# Altium integrated library Micron Memory DDR3 SDRAM.IntLib: 123 symbols (part 4 of 37)
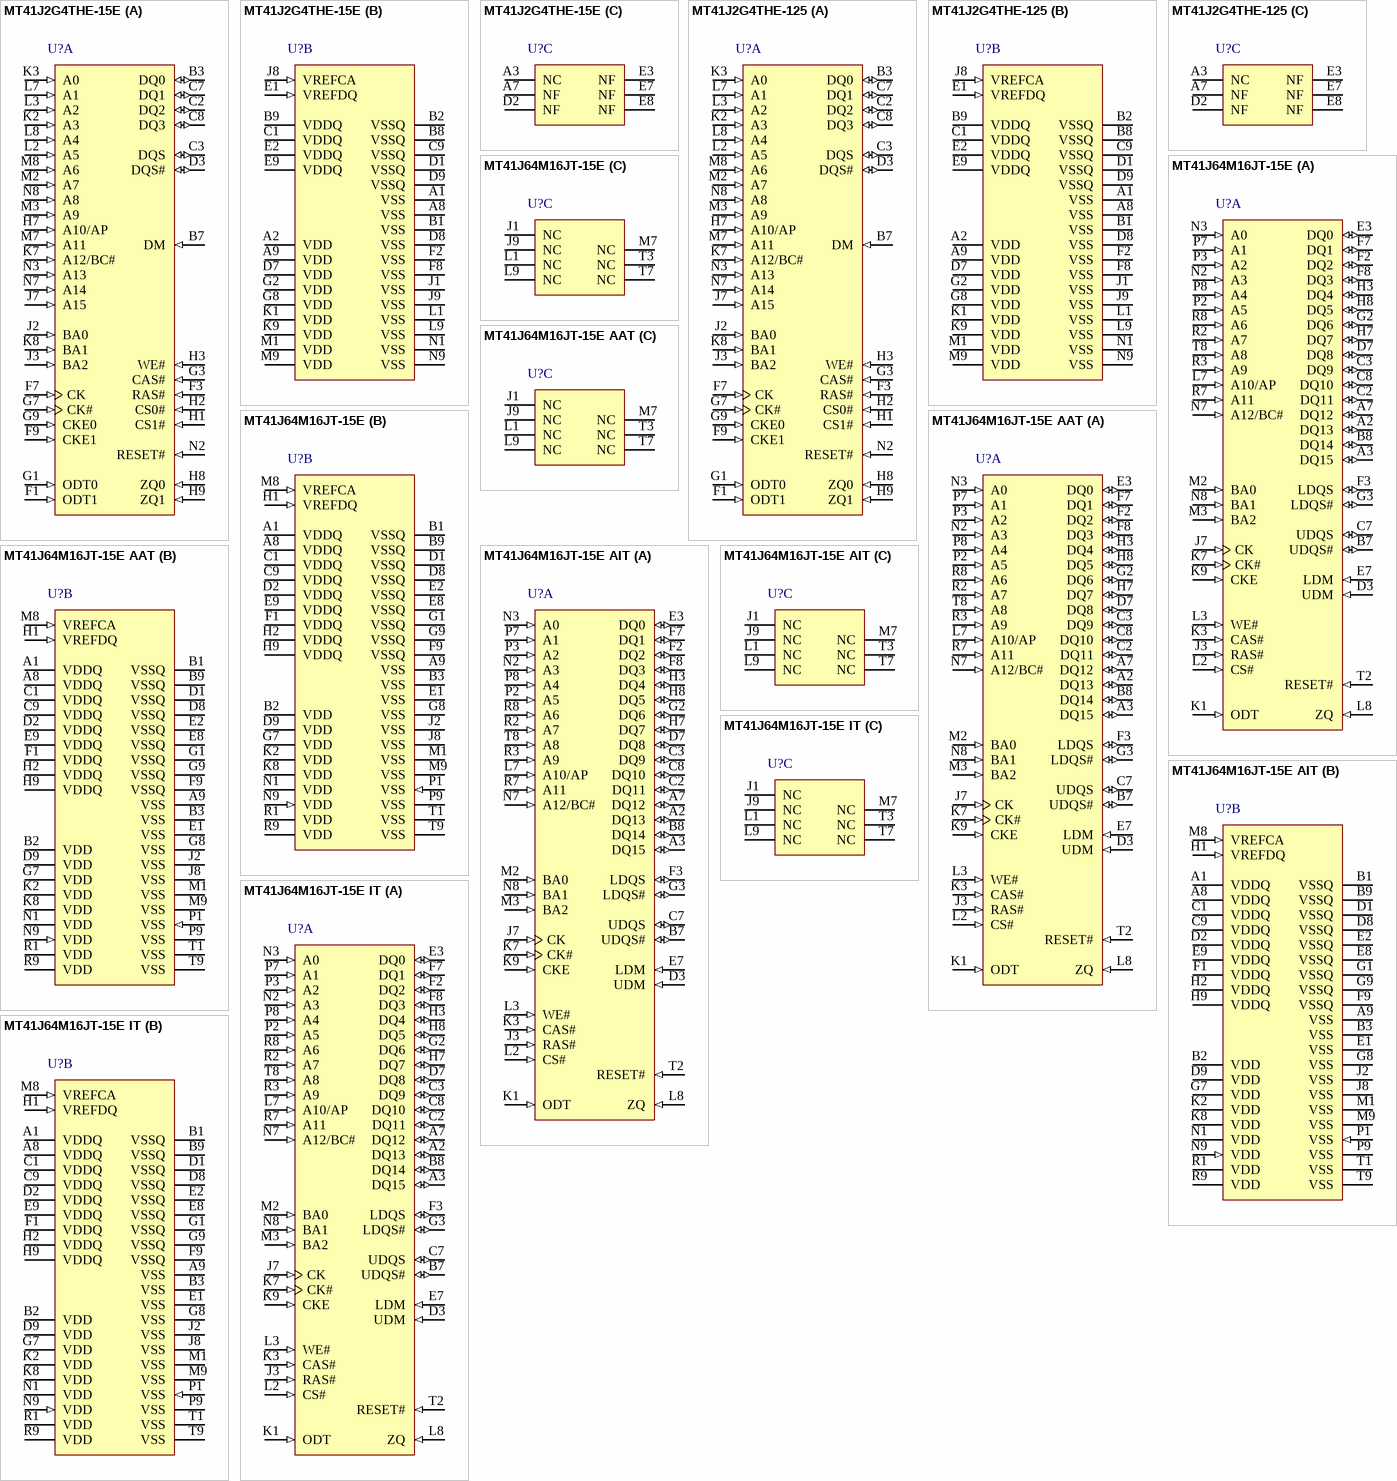
[diagram p21: symbols MT41J2G4THE-15E to MT41J64M16JT-15E IT]

## MT41J64M16JT-15E AAT
designator U?
1Gb DDR3-1333 SDRAM, 64Mb x 16, 1.5ns, 1.5V, -40 to 105 degC, 96-Ball FBGA, Pb-Free; Manufacturer: Micron; PartNumber: MT41J64M16JT-15E AAT; CL: CL = 9; Clock Rate: 667 MHz; Op. Temp.: -40C to +105C; DatasheetVersion: Rev. C; PackageVersion: Rev.G; PackageReference: MICT-JT-96; PackageDescription: 96-Ball Fine-Pitch Ball Grid Array, 14 x 8 mm, Pitch 0.8 mm; Cycle Time: 1.5ns; Data Rate: DDR3-1333; Density: 1Gb; Depth: 64Mb; Package: FBGA; Pin Count: 96-ball; RoHS: Yes; Voltage: 1.5V; Width: x16; Mounting Technology: Surface Mount; ComponentLink1Description: Manufacturer URL; ComponentLink1URL: http://www.micron.com/; ComponentLink2Description: Datasheet; ComponentLink2URL: http://www.micron.com/~/media/Documents/Products/Data%20Sheet/DRAM/1Gb_AIT_AAT_DDR3_SDRAM.pdf; ComponentLink3Description: Package Specification; ComponentLink3URL: http://www.micron.com/~/media/Documents/Products/Data%20Sheet/DRAM/2Gb_DDR3_SDRAM.pdf
footprint MICT-JT-96 (BGA, 96-Balls, Body 14x8mm, Pitch 0.8mm)
part A pins: A2 DQ13 (io) "Data input/output: Upper byte of bidirectional data bus for the x16 configuration. DQ[15:8] are referenced to VREFDQ.", A3 DQ15 (io) "Data input/output: Upper byte of bidirectional data bus for the x16 configuration. DQ[15:8] are referenced to VREFDQ.", A7 DQ12 (io) "Data input/output: Upper byte of bidirectional data bus for the x16 configuration. DQ[15:8] are referenced to VREFDQ.", B7 UDQS# (io) "Upper byte data strobe: Output with read data. Edge-aligned with read data. Input with write data. DQS is center-aligned to write data.", B8 DQ14 (io) "Data input/output: Upper byte of bidirectional data bus for the x16 configuration. DQ[15:8] are referenced to VREFDQ.", C2 DQ11 (io) "Data input/output: Upper byte of bidirectional data bus for the x16 configuration. DQ[15:8] are referenced to VREFDQ.", C3 DQ9 (io) "Data input/output: Upper byte of bidirectional data bus for the x16 configuration. DQ[15:8] are referenced to VREFDQ.", C7 UDQS (io) "Upper byte data strobe: Output with read data. Edge-aligned with read data. Input with write data. DQS is center-aligned to write data.", C8 DQ10 (io) "Data input/output: Upper byte of bidirectional data bus for the x16 configuration. DQ[15:8] are referenced to VREFDQ.", D3 UDM (in) "Input data mask: UDM is an upper-byte, input mask signal for write data. Upperbyte input data is masked when UDM is sampled HIGH along with that input data during a WRITE access. Although the UDM ball is input-only, the UDM (See Datasheet)", D7 DQ8 (io) "Data input/output: Upper byte of bidirectional data bus for the x16 configuration. DQ[15:8] are referenced to VREFDQ.", E3 DQ0 (io) "Data input/output: Lower byte of bidirectional data bus for the x16 configuration. DQ[7:0] are referenced to VREFDQ.", E7 LDM (in) "Input data mask: LDM is a lower-byte, input mask signal for write data. Lower-byte input data is masked when LDM is sampled HIGH along with the input data during a write access. Although the LDM ball is input-only, the LDM (See Datasheet)", F2 DQ2 (io) "Data input/output: Lower byte of bidirectional data bus for the x16 configuration. DQ[7:0] are referenced to VREFDQ.", F3 LDQS (io) "Lower byte data strobe: Output with read data. Edge-aligned with read data. Input with write data. Center-aligned to write data.", F7 DQ1 (io) "Data input/output: Lower byte of bidirectional data bus for the x16 configuration. DQ[7:0] are referenced to VREFDQ.", F8 DQ3 (io) "Data input/output: Lower byte of bidirectional data bus for the x16 configuration. DQ[7:0] are referenced to VREFDQ.", G2 DQ6 (io) "Data input/output: Lower byte of bidirectional data bus for the x16 configuration. DQ[7:0] are referenced to VREFDQ.", G3 LDQS# (io) "Lower byte data strobe: Output with read data. Edge-aligned with read data. Input with write data. Center-aligned to write data.", H3 DQ4 (io) "Data input/output: Lower byte of bidirectional data bus for the x16 configuration. DQ[7:0] are referenced to VREFDQ.", H7 DQ7 (io) "Data input/output: Lower byte of bidirectional data bus for the x16 configuration. DQ[7:0] are referenced to VREFDQ.", H8 DQ5 (io) "Data input/output: Lower byte of bidirectional data bus for the x16 configuration. DQ[7:0] are referenced to VREFDQ.", J3 RAS# (in) "Command inputs: RAS#, CAS#, and WE# (along with CS#) define the command being entered and are referenced to VREFCA.", J7 CK (in) "Clock: CK and CK# are differential clock inputs. All control and address input signals are sampled on the crossing of the positive edge of CK and the negative edge of CK#. Output data strobe (DQS, DQS#) is referenced to the (See Datasheet)", K1 ODT (in) "On-die termination: ODT enables (registered HIGH) and disables (registered LOW) termination resistance internal to the DDR3 SDRAM. When enabled in normal operation, ODT is only applied to each of the following balls: (See Datasheet)", K3 CAS# (in) "Command inputs: RAS#, CAS#, and WE# (along with CS#) define the command being entered and are referenced to VREFCA.", K7 CK# (in) "Clock: CK and CK# are differential clock inputs. All control and address input signals are sampled on the crossing of the positive edge of CK and the negative edge of CK#. Output data strobe (DQS, DQS#) is referenced to the (See Datasheet)", K9 CKE (in) "Clock enable: CKE enables (registered HIGH) and disables (registered LOW) internal circuitry and clocks on the DRAM. The specific circuitry that is enabled/disabled is dependent upon the DDR3 SDRAM configuration and (See Datasheet)", L2 CS# (in) "Chip select: CS# enables (registered LOW) and disables (registered HIGH) the command decoder. All commands are masked when CS# is registered HIGH. CS# provides for external rank selection on systems with multiple ranks. CS# (See Datasheet)", L3 WE# (in) "Command inputs: RAS#, CAS#, and WE# (along with CS#) define the command being entered and are referenced to VREFCA.", L7 A10/AP (in) "Address inputs: Provide the row address for ACTIVATE commands, and the column address and auto precharge bit (A10) for READ/WRITE commands, to select one location out of the memory array in the respective bank. A10 sampled (See Datasheet)", L8 ZQ (in) "External reference ball for output drive calibration: This ball is tied to an external 240ohm resistor (RZQ), which is tied to VSSQ.", M2 BA0 (in) "Bank address inputs: BA[2:0] define the bank to which an ACTIVATE, READ, WRITE, or PRECHARGE command is being applied. BA[2:0] define which mode register (MR0, MR1, MR2, or MR3) is loaded during the LOAD MODE command. (See Datasheet)", M3 BA2 (in) "Bank address inputs: BA[2:0] define the bank to which an ACTIVATE, READ, WRITE, or PRECHARGE command is being applied. BA[2:0] define which mode register (MR0, MR1, MR2, or MR3) is loaded during the LOAD MODE command. (See Datasheet)", N2 A3 (in) "Address inputs: Provide the row address for ACTIVATE commands, and the column address and auto precharge bit (A10) for READ/WRITE commands, to select one location out of the memory array in the respective bank. A10 sampled (See Datasheet)", N3 A0 (in) "Address inputs: Provide the row address for ACTIVATE commands, and the column address and auto precharge bit (A10) for READ/WRITE commands, to select one location out of the memory array in the respective bank. A10 sampled (See Datasheet)", N7 A12/BC# (in) "Address inputs: Provide the row address for ACTIVATE commands, and the column address and auto precharge bit (A10) for READ/WRITE commands, to select one location out of the memory array in the respective bank. A10 sampled (See Datasheet)", N8 BA1 (in) "Bank address inputs: BA[2:0] define the bank to which an ACTIVATE, READ, WRITE, or PRECHARGE command is being applied. BA[2:0] define which mode register (MR0, MR1, MR2, or MR3) is loaded during the LOAD MODE command. (See Datasheet)", P2 A5 (in) "Address inputs: Provide the row address for ACTIVATE commands, and the column address and auto precharge bit (A10) for READ/WRITE commands, to select one location out of the memory array in the respective bank. A10 sampled (See Datasheet)", P3 A2 (in) "Address inputs: Provide the row address for ACTIVATE commands, and the column address and auto precharge bit (A10) for READ/WRITE commands, to select one location out of the memory array in the respective bank. A10 sampled (See Datasheet)", P7 A1 (in) "Address inputs: Provide the row address for ACTIVATE commands, and the column address and auto precharge bit (A10) for READ/WRITE commands, to select one location out of the memory array in the respective bank. A10 sampled (See Datasheet)", P8 A4 (in) "Address inputs: Provide the row address for ACTIVATE commands, and the column address and auto precharge bit (A10) for READ/WRITE commands, to select one location out of the memory array in the respective bank. A10 sampled (See Datasheet)", R2 A7 (in) "Address inputs: Provide the row address for ACTIVATE commands, and the column address and auto precharge bit (A10) for READ/WRITE commands, to select one location out of the memory array in the respective bank. A10 sampled (See Datasheet)", R3 A9 (in) "Address inputs: Provide the row address for ACTIVATE commands, and the column address and auto precharge bit (A10) for READ/WRITE commands, to select one location out of the memory array in the respective bank. A10 sampled (See Datasheet)", R7 A11 (in) "Address inputs: Provide the row address for ACTIVATE commands, and the column address and auto precharge bit (A10) for READ/WRITE commands, to select one location out of the memory array in the respective bank. A10 sampled (See Datasheet)", R8 A6 (in) "Address inputs: Provide the row address for ACTIVATE commands, and the column address and auto precharge bit (A10) for READ/WRITE commands, to select one location out of the memory array in the respective bank. A10 sampled (See Datasheet)", T2 RESET# (in) "Reset: RESET# is an active LOW CMOS input referenced to VSS . The RESET# input receiver is a CMOS input defined as a rail-to-rail signal with DC HIGH >= 0.8 x VDD and DC LOW =< 0.2 x VDDQ. RESET# assertion and desertion are (See Datasheet)", T8 A8 (in) "Address inputs: Provide the row address for ACTIVATE commands, and the column address and auto precharge bit (A10) for READ/WRITE commands, to select one location out of the memory array in the respective bank. A10 sampled (See Datasheet)"
part B pins: A1 VDDQ (power) "DQ power supply: 1.5V +/-0.075V. Isolated on the device for improved noise immunity.", A8 VDDQ (power) "DQ power supply: 1.5V +/-0.075V. Isolated on the device for improved noise immunity.", A9 VSS (power) "Ground.", B1 VSSQ (power) "DQ ground: Isolated on the device for improved noise immunity.", B2 VDD (power) "Power supply: 1.5V +/-0.075V.", B3 VSS (power) "Ground.", B9 VSSQ (power) "DQ ground: Isolated on the device for improved noise immunity.", C1 VDDQ (power) "DQ power supply: 1.5V +/-0.075V. Isolated on the device for improved noise immunity.", C9 VDDQ (power) "DQ power supply: 1.5V +/-0.075V. Isolated on the device for improved noise immunity.", D1 VSSQ (power) "DQ ground: Isolated on the device for improved noise immunity.", D2 VDDQ (power) "DQ power supply: 1.5V +/-0.075V. Isolated on the device for improved noise immunity.", D8 VSSQ (power) "DQ ground: Isolated on the device for improved noise immunity.", D9 VDD (power) "Power supply: 1.5V +/-0.075V.", E1 VSS (power) "Ground.", E2 VSSQ (power) "DQ ground: Isolated on the device for improved noise immunity.", E8 VSSQ (power) "DQ ground: Isolated on the device for improved noise immunity.", E9 VDDQ (power) "DQ power supply: 1.5V +/-0.075V. Isolated on the device for improved noise immunity.", F1 VDDQ (power) "DQ power supply: 1.5V +/-0.075V. Isolated on the device for improved noise immunity.", F9 VSSQ (power) "DQ ground: Isolated on the device for improved noise immunity.", G1 VSSQ (power) "DQ ground: Isolated on the device for improved noise immunity.", G7 VDD (power) "Power supply: 1.5V +/-0.075V.", G8 VSS (power) "Ground.", G9 VSSQ (power) "DQ ground: Isolated on the device for improved noise immunity.", H1 VREFDQ (in) "Reference voltage for data: VREFDQ must be maintained at all times (excluding self refresh) for proper device operation.", H2 VDDQ (power) "DQ power supply: 1.5V +/-0.075V. Isolated on the device for improved noise immunity.", H9 VDDQ (power) "DQ power supply: 1.5V +/-0.075V. Isolated on the device for improved noise immunity.", J2 VSS (power) "Ground.", J8 VSS (power) "Ground.", K2 VDD (power) "Power supply: 1.5V +/-0.075V.", K8 VDD (power) "Power supply: 1.5V +/-0.075V.", M1 VSS (power) "Ground.", M8 VREFCA (in) "Reference voltage for control, command, and address: VREFCA must be maintained at all times (including self refresh) for proper device operation.", M9 VSS (power) "Ground.", N1 VDD (power) "Power supply: 1.5V +/-0.075V.", N9 VDD (in) "Power supply: 1.5V +/-0.075V.", P1 VSS (in) "Ground.", P9 VSS (power) "Ground.", R1 VDD (power) "Power supply: 1.5V +/-0.075V.", R9 VDD (power) "Power supply: 1.5V +/-0.075V.", T1 VSS (power) "Ground.", T9 VSS (power) "Ground."
part C pins: J1 NC "No connect: These balls should be left unconnected (the ball has no connection to the DRAM or to other balls).", J9 NC "No connect: These balls should be left unconnected (the ball has no connection to the DRAM or to other balls).", L1 NC "No connect: These balls should be left unconnected (the ball has no connection to the DRAM or to other balls).", L9 NC "No connect: These balls should be left unconnected (the ball has no connection to the DRAM or to other balls).", M7 NC "No connect: These balls should be left unconnected (the ball has no connection to the DRAM or to other balls).", T3 NC "No connect: These balls should be left unconnected (the ball has no connection to the DRAM or to other balls).", T7 NC "No connect: These balls should be left unconnected (the ball has no connection to the DRAM or to other balls)."

## MT41J64M16JT-15E AIT
designator U?
1Gb DDR3-1333 SDRAM, 64Mb x 16, 1.5ns, 1.5V, -40 to 95 degC, 96-Ball FBGA, Pb-Free; Manufacturer: Micron; PartNumber: MT41J64M16JT-15E AIT; CL: CL = 9; Clock Rate: 667 MHz; Op. Temp.: -40C to +95C; DatasheetVersion: Rev. C; PackageVersion: Rev.G; PackageReference: MICT-JT-96; PackageDescription: 96-Ball Fine-Pitch Ball Grid Array, 14 x 8 mm, Pitch 0.8 mm; Cycle Time: 1.5ns; Data Rate: DDR3-1333; Density: 1Gb; Depth: 64Mb; Package: FBGA; Pin Count: 96-ball; RoHS: Yes; Voltage: 1.5V; Width: x16; Mounting Technology: Surface Mount; ComponentLink1Description: Manufacturer URL; ComponentLink1URL: http://www.micron.com/; ComponentLink2Description: Datasheet; ComponentLink2URL: http://www.micron.com/~/media/Documents/Products/Data%20Sheet/DRAM/1Gb_AIT_AAT_DDR3_SDRAM.pdf; ComponentLink3Description: Package Specification; ComponentLink3URL: http://www.micron.com/~/media/Documents/Products/Data%20Sheet/DRAM/2Gb_DDR3_SDRAM.pdf
footprint MICT-JT-96 (BGA, 96-Balls, Body 14x8mm, Pitch 0.8mm)
part A pins: A2 DQ13 (io) "Data input/output: Upper byte of bidirectional data bus for the x16 configuration. DQ[15:8] are referenced to VREFDQ.", A3 DQ15 (io) "Data input/output: Upper byte of bidirectional data bus for the x16 configuration. DQ[15:8] are referenced to VREFDQ.", A7 DQ12 (io) "Data input/output: Upper byte of bidirectional data bus for the x16 configuration. DQ[15:8] are referenced to VREFDQ.", B7 UDQS# (io) "Upper byte data strobe: Output with read data. Edge-aligned with read data. Input with write data. DQS is center-aligned to write data.", B8 DQ14 (io) "Data input/output: Upper byte of bidirectional data bus for the x16 configuration. DQ[15:8] are referenced to VREFDQ.", C2 DQ11 (io) "Data input/output: Upper byte of bidirectional data bus for the x16 configuration. DQ[15:8] are referenced to VREFDQ.", C3 DQ9 (io) "Data input/output: Upper byte of bidirectional data bus for the x16 configuration. DQ[15:8] are referenced to VREFDQ.", C7 UDQS (io) "Upper byte data strobe: Output with read data. Edge-aligned with read data. Input with write data. DQS is center-aligned to write data.", C8 DQ10 (io) "Data input/output: Upper byte of bidirectional data bus for the x16 configuration. DQ[15:8] are referenced to VREFDQ.", D3 UDM (in) "Input data mask: UDM is an upper-byte, input mask signal for write data. Upperbyte input data is masked when UDM is sampled HIGH along with that input data during a WRITE access. Although the UDM ball is input-only, the UDM (See Datasheet)", D7 DQ8 (io) "Data input/output: Upper byte of bidirectional data bus for the x16 configuration. DQ[15:8] are referenced to VREFDQ.", E3 DQ0 (io) "Data input/output: Lower byte of bidirectional data bus for the x16 configuration. DQ[7:0] are referenced to VREFDQ.", E7 LDM (in) "Input data mask: LDM is a lower-byte, input mask signal for write data. Lower-byte input data is masked when LDM is sampled HIGH along with the input data during a write access. Although the LDM ball is input-only, the LDM (See Datasheet)", F2 DQ2 (io) "Data input/output: Lower byte of bidirectional data bus for the x16 configuration. DQ[7:0] are referenced to VREFDQ.", F3 LDQS (io) "Lower byte data strobe: Output with read data. Edge-aligned with read data. Input with write data. Center-aligned to write data.", F7 DQ1 (io) "Data input/output: Lower byte of bidirectional data bus for the x16 configuration. DQ[7:0] are referenced to VREFDQ.", F8 DQ3 (io) "Data input/output: Lower byte of bidirectional data bus for the x16 configuration. DQ[7:0] are referenced to VREFDQ.", G2 DQ6 (io) "Data input/output: Lower byte of bidirectional data bus for the x16 configuration. DQ[7:0] are referenced to VREFDQ.", G3 LDQS# (io) "Lower byte data strobe: Output with read data. Edge-aligned with read data. Input with write data. Center-aligned to write data.", H3 DQ4 (io) "Data input/output: Lower byte of bidirectional data bus for the x16 configuration. DQ[7:0] are referenced to VREFDQ.", H7 DQ7 (io) "Data input/output: Lower byte of bidirectional data bus for the x16 configuration. DQ[7:0] are referenced to VREFDQ.", H8 DQ5 (io) "Data input/output: Lower byte of bidirectional data bus for the x16 configuration. DQ[7:0] are referenced to VREFDQ.", J3 RAS# (in) "Command inputs: RAS#, CAS#, and WE# (along with CS#) define the command being entered and are referenced to VREFCA.", J7 CK (in) "Clock: CK and CK# are differential clock inputs. All control and address input signals are sampled on the crossing of the positive edge of CK and the negative edge of CK#. Output data strobe (DQS, DQS#) is referenced to the (See Datasheet)", K1 ODT (in) "On-die termination: ODT enables (registered HIGH) and disables (registered LOW) termination resistance internal to the DDR3 SDRAM. When enabled in normal operation, ODT is only applied to each of the following balls: (See Datasheet)", K3 CAS# (in) "Command inputs: RAS#, CAS#, and WE# (along with CS#) define the command being entered and are referenced to VREFCA.", K7 CK# (in) "Clock: CK and CK# are differential clock inputs. All control and address input signals are sampled on the crossing of the positive edge of CK and the negative edge of CK#. Output data strobe (DQS, DQS#) is referenced to the (See Datasheet)", K9 CKE (in) "Clock enable: CKE enables (registered HIGH) and disables (registered LOW) internal circuitry and clocks on the DRAM. The specific circuitry that is enabled/disabled is dependent upon the DDR3 SDRAM configuration and (See Datasheet)", L2 CS# (in) "Chip select: CS# enables (registered LOW) and disables (registered HIGH) the command decoder. All commands are masked when CS# is registered HIGH. CS# provides for external rank selection on systems with multiple ranks. CS# (See Datasheet)", L3 WE# (in) "Command inputs: RAS#, CAS#, and WE# (along with CS#) define the command being entered and are referenced to VREFCA.", L7 A10/AP (in) "Address inputs: Provide the row address for ACTIVATE commands, and the column address and auto precharge bit (A10) for READ/WRITE commands, to select one location out of the memory array in the respective bank. A10 sampled (See Datasheet)", L8 ZQ (in) "External reference ball for output drive calibration: This ball is tied to an external 240ohm resistor (RZQ), which is tied to VSSQ.", M2 BA0 (in) "Bank address inputs: BA[2:0] define the bank to which an ACTIVATE, READ, WRITE, or PRECHARGE command is being applied. BA[2:0] define which mode register (MR0, MR1, MR2, or MR3) is loaded during the LOAD MODE command. (See Datasheet)", M3 BA2 (in) "Bank address inputs: BA[2:0] define the bank to which an ACTIVATE, READ, WRITE, or PRECHARGE command is being applied. BA[2:0] define which mode register (MR0, MR1, MR2, or MR3) is loaded during the LOAD MODE command. (See Datasheet)", N2 A3 (in) "Address inputs: Provide the row address for ACTIVATE commands, and the column address and auto precharge bit (A10) for READ/WRITE commands, to select one location out of the memory array in the respective bank. A10 sampled (See Datasheet)", N3 A0 (in) "Address inputs: Provide the row address for ACTIVATE commands, and the column address and auto precharge bit (A10) for READ/WRITE commands, to select one location out of the memory array in the respective bank. A10 sampled (See Datasheet)", N7 A12/BC# (in) "Address inputs: Provide the row address for ACTIVATE commands, and the column address and auto precharge bit (A10) for READ/WRITE commands, to select one location out of the memory array in the respective bank. A10 sampled (See Datasheet)", N8 BA1 (in) "Bank address inputs: BA[2:0] define the bank to which an ACTIVATE, READ, WRITE, or PRECHARGE command is being applied. BA[2:0] define which mode register (MR0, MR1, MR2, or MR3) is loaded during the LOAD MODE command. (See Datasheet)", P2 A5 (in) "Address inputs: Provide the row address for ACTIVATE commands, and the column address and auto precharge bit (A10) for READ/WRITE commands, to select one location out of the memory array in the respective bank. A10 sampled (See Datasheet)", P3 A2 (in) "Address inputs: Provide the row address for ACTIVATE commands, and the column address and auto precharge bit (A10) for READ/WRITE commands, to select one location out of the memory array in the respective bank. A10 sampled (See Datasheet)", P7 A1 (in) "Address inputs: Provide the row address for ACTIVATE commands, and the column address and auto precharge bit (A10) for READ/WRITE commands, to select one location out of the memory array in the respective bank. A10 sampled (See Datasheet)", P8 A4 (in) "Address inputs: Provide the row address for ACTIVATE commands, and the column address and auto precharge bit (A10) for READ/WRITE commands, to select one location out of the memory array in the respective bank. A10 sampled (See Datasheet)", R2 A7 (in) "Address inputs: Provide the row address for ACTIVATE commands, and the column address and auto precharge bit (A10) for READ/WRITE commands, to select one location out of the memory array in the respective bank. A10 sampled (See Datasheet)", R3 A9 (in) "Address inputs: Provide the row address for ACTIVATE commands, and the column address and auto precharge bit (A10) for READ/WRITE commands, to select one location out of the memory array in the respective bank. A10 sampled (See Datasheet)", R7 A11 (in) "Address inputs: Provide the row address for ACTIVATE commands, and the column address and auto precharge bit (A10) for READ/WRITE commands, to select one location out of the memory array in the respective bank. A10 sampled (See Datasheet)", R8 A6 (in) "Address inputs: Provide the row address for ACTIVATE commands, and the column address and auto precharge bit (A10) for READ/WRITE commands, to select one location out of the memory array in the respective bank. A10 sampled (See Datasheet)", T2 RESET# (in) "Reset: RESET# is an active LOW CMOS input referenced to VSS . The RESET# input receiver is a CMOS input defined as a rail-to-rail signal with DC HIGH >= 0.8 x VDD and DC LOW =< 0.2 x VDDQ. RESET# assertion and desertion are (See Datasheet)", T8 A8 (in) "Address inputs: Provide the row address for ACTIVATE commands, and the column address and auto precharge bit (A10) for READ/WRITE commands, to select one location out of the memory array in the respective bank. A10 sampled (See Datasheet)"
part B pins: A1 VDDQ (power) "DQ power supply: 1.5V +/-0.075V. Isolated on the device for improved noise immunity.", A8 VDDQ (power) "DQ power supply: 1.5V +/-0.075V. Isolated on the device for improved noise immunity.", A9 VSS (power) "Ground.", B1 VSSQ (power) "DQ ground: Isolated on the device for improved noise immunity.", B2 VDD (power) "Power supply: 1.5V +/-0.075V.", B3 VSS (power) "Ground.", B9 VSSQ (power) "DQ ground: Isolated on the device for improved noise immunity.", C1 VDDQ (power) "DQ power supply: 1.5V +/-0.075V. Isolated on the device for improved noise immunity.", C9 VDDQ (power) "DQ power supply: 1.5V +/-0.075V. Isolated on the device for improved noise immunity.", D1 VSSQ (power) "DQ ground: Isolated on the device for improved noise immunity.", D2 VDDQ (power) "DQ power supply: 1.5V +/-0.075V. Isolated on the device for improved noise immunity.", D8 VSSQ (power) "DQ ground: Isolated on the device for improved noise immunity.", D9 VDD (power) "Power supply: 1.5V +/-0.075V.", E1 VSS (power) "Ground.", E2 VSSQ (power) "DQ ground: Isolated on the device for improved noise immunity.", E8 VSSQ (power) "DQ ground: Isolated on the device for improved noise immunity.", E9 VDDQ (power) "DQ power supply: 1.5V +/-0.075V. Isolated on the device for improved noise immunity.", F1 VDDQ (power) "DQ power supply: 1.5V +/-0.075V. Isolated on the device for improved noise immunity.", F9 VSSQ (power) "DQ ground: Isolated on the device for improved noise immunity.", G1 VSSQ (power) "DQ ground: Isolated on the device for improved noise immunity.", G7 VDD (power) "Power supply: 1.5V +/-0.075V.", G8 VSS (power) "Ground.", G9 VSSQ (power) "DQ ground: Isolated on the device for improved noise immunity.", H1 VREFDQ (in) "Reference voltage for data: VREFDQ must be maintained at all times (excluding self refresh) for proper device operation.", H2 VDDQ (power) "DQ power supply: 1.5V +/-0.075V. Isolated on the device for improved noise immunity.", H9 VDDQ (power) "DQ power supply: 1.5V +/-0.075V. Isolated on the device for improved noise immunity.", J2 VSS (power) "Ground.", J8 VSS (power) "Ground.", K2 VDD (power) "Power supply: 1.5V +/-0.075V.", K8 VDD (power) "Power supply: 1.5V +/-0.075V.", M1 VSS (power) "Ground.", M8 VREFCA (in) "Reference voltage for control, command, and address: VREFCA must be maintained at all times (including self refresh) for proper device operation.", M9 VSS (power) "Ground.", N1 VDD (power) "Power supply: 1.5V +/-0.075V.", N9 VDD (in) "Power supply: 1.5V +/-0.075V.", P1 VSS (in) "Ground.", P9 VSS (power) "Ground.", R1 VDD (power) "Power supply: 1.5V +/-0.075V.", R9 VDD (power) "Power supply: 1.5V +/-0.075V.", T1 VSS (power) "Ground.", T9 VSS (power) "Ground."
part C pins: J1 NC "No connect: These balls should be left unconnected (the ball has no connection to the DRAM or to other balls).", J9 NC "No connect: These balls should be left unconnected (the ball has no connection to the DRAM or to other balls).", L1 NC "No connect: These balls should be left unconnected (the ball has no connection to the DRAM or to other balls).", L9 NC "No connect: These balls should be left unconnected (the ball has no connection to the DRAM or to other balls).", M7 NC "No connect: These balls should be left unconnected (the ball has no connection to the DRAM or to other balls).", T3 NC "No connect: These balls should be left unconnected (the ball has no connection to the DRAM or to other balls).", T7 NC "No connect: These balls should be left unconnected (the ball has no connection to the DRAM or to other balls)."

## MT41J64M16JT-15E IT
designator U?
1Gb DDR3-1333 SDRAM, 64Mb x 16, 1.5ns, 1.5V, -40 to 95 degC, 96-Ball FBGA, Pb-Free; Manufacturer: Micron; PartNumber: MT41J64M16JT-15E IT; CL: CL = 9; Clock Rate: 667 MHz; Op. Temp.: -40C to +95C; DatasheetVersion: Rev. K; PackageVersion: Rev.G; PackageReference: MICT-JT-96; PackageDescription: 96-Ball Fine-Pitch Ball Grid Array, 14 x 8 mm, Pitch 0.8 mm; Cycle Time: 1.5ns; Data Rate: DDR3-1333; Density: 1Gb; Depth: 64Mb; Package: FBGA; Pin Count: 96-ball; RoHS: Yes; Voltage: 1.5V; Width: x16; Mounting Technology: Surface Mount; ComponentLink1Description: Manufacturer URL; ComponentLink1URL: http://www.micron.com/; ComponentLink2Description: Datasheet; ComponentLink2URL: http://www.micron.com/~/media/Documents/Products/Data%20Sheet/DRAM/4251Gb_DDR3_SDRAM.pdf; ComponentLink3Description: Package Specification; ComponentLink3URL: http://www.micron.com/~/media/Documents/Products/Data%20Sheet/DRAM/2Gb_DDR3_SDRAM.pdf
footprint MICT-JT-96 (BGA, 96-Balls, Body 14x8mm, Pitch 0.8mm)
part A pins: A2 DQ13 (io) "Data input/output: Upper byte of bidirectional data bus for the x16 configuration. DQ[15:8] are referenced to VREFDQ.", A3 DQ15 (io) "Data input/output: Upper byte of bidirectional data bus for the x16 configuration. DQ[15:8] are referenced to VREFDQ.", A7 DQ12 (io) "Data input/output: Upper byte of bidirectional data bus for the x16 configuration. DQ[15:8] are referenced to VREFDQ.", B7 UDQS# (io) "Upper byte data strobe: Output with read data. Edge-aligned with read data. Input with write data. DQS is center-aligned to write data.", B8 DQ14 (io) "Data input/output: Upper byte of bidirectional data bus for the x16 configuration. DQ[15:8] are referenced to VREFDQ.", C2 DQ11 (io) "Data input/output: Upper byte of bidirectional data bus for the x16 configuration. DQ[15:8] are referenced to VREFDQ.", C3 DQ9 (io) "Data input/output: Upper byte of bidirectional data bus for the x16 configuration. DQ[15:8] are referenced to VREFDQ.", C7 UDQS (io) "Upper byte data strobe: Output with read data. Edge-aligned with read data. Input with write data. DQS is center-aligned to write data.", C8 DQ10 (io) "Data input/output: Upper byte of bidirectional data bus for the x16 configuration. DQ[15:8] are referenced to VREFDQ.", D3 UDM (in) "Input data mask: UDM is an upper-byte, input mask signal for write data. Upperbyte input data is masked when UDM is sampled HIGH along with that input data during a WRITE access. Although the UDM ball is input-only, the UDM (See Datasheet)", D7 DQ8 (io) "Data input/output: Upper byte of bidirectional data bus for the x16 configuration. DQ[15:8] are referenced to VREFDQ.", E3 DQ0 (io) "Data input/output: Lower byte of bidirectional data bus for the x16 configuration. DQ[7:0] are referenced to VREFDQ.", E7 LDM (in) "Input data mask: LDM is a lower-byte, input mask signal for write data. Lower-byte input data is masked when LDM is sampled HIGH along with the input data during a write access. Although the LDM ball is input-only, the LDM (See Datasheet)", F2 DQ2 (io) "Data input/output: Lower byte of bidirectional data bus for the x16 configuration. DQ[7:0] are referenced to VREFDQ.", F3 LDQS (io) "Lower byte data strobe: Output with read data. Edge-aligned with read data. Input with write data. Center-aligned to write data.", F7 DQ1 (io) "Data input/output: Lower byte of bidirectional data bus for the x16 configuration. DQ[7:0] are referenced to VREFDQ.", F8 DQ3 (io) "Data input/output: Lower byte of bidirectional data bus for the x16 configuration. DQ[7:0] are referenced to VREFDQ.", G2 DQ6 (io) "Data input/output: Lower byte of bidirectional data bus for the x16 configuration. DQ[7:0] are referenced to VREFDQ.", G3 LDQS# (io) "Lower byte data strobe: Output with read data. Edge-aligned with read data. Input with write data. Center-aligned to write data.", H3 DQ4 (io) "Data input/output: Lower byte of bidirectional data bus for the x16 configuration. DQ[7:0] are referenced to VREFDQ.", H7 DQ7 (io) "Data input/output: Lower byte of bidirectional data bus for the x16 configuration. DQ[7:0] are referenced to VREFDQ.", H8 DQ5 (io) "Data input/output: Lower byte of bidirectional data bus for the x16 configuration. DQ[7:0] are referenced to VREFDQ.", J3 RAS# (in) "Command inputs: RAS#, CAS#, and WE# (along with CS#) define the command being entered and are referenced to VREFCA.", J7 CK (in) "Clock: CK and CK# are differential clock inputs. All control and address input signals are sampled on the crossing of the positive edge of CK and the negative edge of CK#. Output data strobe (DQS, DQS#) is referenced to the (See Datasheet)", K1 ODT (in) "On-die termination: ODT enables (registered HIGH) and disables (registered LOW) termination resistance internal to the DDR3 SDRAM. When enabled in normal operation, ODT is only applied to each of the following balls: (See Datasheet)", K3 CAS# (in) "Command inputs: RAS#, CAS#, and WE# (along with CS#) define the command being entered and are referenced to VREFCA.", K7 CK# (in) "Clock: CK and CK# are differential clock inputs. All control and address input signals are sampled on the crossing of the positive edge of CK and the negative edge of CK#. Output data strobe (DQS, DQS#) is referenced to the (See Datasheet)", K9 CKE (in) "Clock enable: CKE enables (registered HIGH) and disables (registered LOW) internal circuitry and clocks on the DRAM. The specific circuitry that is enabled/disabled is dependent upon the DDR3 SDRAM configuration and (See Datasheet)", L2 CS# (in) "Chip select: CS# enables (registered LOW) and disables (registered HIGH) the command decoder. All commands are masked when CS# is registered HIGH. CS# provides for external rank selection on systems with multiple ranks. CS# (See Datasheet)", L3 WE# (in) "Command inputs: RAS#, CAS#, and WE# (along with CS#) define the command being entered and are referenced to VREFCA.", L7 A10/AP (in) "Address inputs: Provide the row address for ACTIVATE commands, and the column address and auto precharge bit (A10) for READ/WRITE commands, to select one location out of the memory array in the respective bank. A10 sampled (See Datasheet)", L8 ZQ (in) "External reference ball for output drive calibration: This ball is tied to an external 240ohm resistor (RZQ), which is tied to VSSQ.", M2 BA0 (in) "Bank address inputs: BA[2:0] define the bank to which an ACTIVATE, READ, WRITE, or PRECHARGE command is being applied. BA[2:0] define which mode register (MR0, MR1, MR2, or MR3) is loaded during the LOAD MODE command. (See Datasheet)", M3 BA2 (in) "Bank address inputs: BA[2:0] define the bank to which an ACTIVATE, READ, WRITE, or PRECHARGE command is being applied. BA[2:0] define which mode register (MR0, MR1, MR2, or MR3) is loaded during the LOAD MODE command. (See Datasheet)", N2 A3 (in) "Address inputs: Provide the row address for ACTIVATE commands, and the column address and auto precharge bit (A10) for READ/WRITE commands, to select one location out of the memory array in the respective bank. A10 sampled (See Datasheet)", N3 A0 (in) "Address inputs: Provide the row address for ACTIVATE commands, and the column address and auto precharge bit (A10) for READ/WRITE commands, to select one location out of the memory array in the respective bank. A10 sampled (See Datasheet)", N7 A12/BC# (in) "Address inputs: Provide the row address for ACTIVATE commands, and the column address and auto precharge bit (A10) for READ/WRITE commands, to select one location out of the memory array in the respective bank. A10 sampled (See Datasheet)", N8 BA1 (in) "Bank address inputs: BA[2:0] define the bank to which an ACTIVATE, READ, WRITE, or PRECHARGE command is being applied. BA[2:0] define which mode register (MR0, MR1, MR2, or MR3) is loaded during the LOAD MODE command. (See Datasheet)", P2 A5 (in) "Address inputs: Provide the row address for ACTIVATE commands, and the column address and auto precharge bit (A10) for READ/WRITE commands, to select one location out of the memory array in the respective bank. A10 sampled (See Datasheet)", P3 A2 (in) "Address inputs: Provide the row address for ACTIVATE commands, and the column address and auto precharge bit (A10) for READ/WRITE commands, to select one location out of the memory array in the respective bank. A10 sampled (See Datasheet)", P7 A1 (in) "Address inputs: Provide the row address for ACTIVATE commands, and the column address and auto precharge bit (A10) for READ/WRITE commands, to select one location out of the memory array in the respective bank. A10 sampled (See Datasheet)", P8 A4 (in) "Address inputs: Provide the row address for ACTIVATE commands, and the column address and auto precharge bit (A10) for READ/WRITE commands, to select one location out of the memory array in the respective bank. A10 sampled (See Datasheet)", R2 A7 (in) "Address inputs: Provide the row address for ACTIVATE commands, and the column address and auto precharge bit (A10) for READ/WRITE commands, to select one location out of the memory array in the respective bank. A10 sampled (See Datasheet)", R3 A9 (in) "Address inputs: Provide the row address for ACTIVATE commands, and the column address and auto precharge bit (A10) for READ/WRITE commands, to select one location out of the memory array in the respective bank. A10 sampled (See Datasheet)", R7 A11 (in) "Address inputs: Provide the row address for ACTIVATE commands, and the column address and auto precharge bit (A10) for READ/WRITE commands, to select one location out of the memory array in the respective bank. A10 sampled (See Datasheet)", R8 A6 (in) "Address inputs: Provide the row address for ACTIVATE commands, and the column address and auto precharge bit (A10) for READ/WRITE commands, to select one location out of the memory array in the respective bank. A10 sampled (See Datasheet)", T2 RESET# (in) "Reset: RESET# is an active LOW CMOS input referenced to VSS . The RESET# input receiver is a CMOS input defined as a rail-to-rail signal with DC HIGH >= 0.8 x VDD and DC LOW =< 0.2 x VDDQ. RESET# assertion and desertion are (See Datasheet)", T8 A8 (in) "Address inputs: Provide the row address for ACTIVATE commands, and the column address and auto precharge bit (A10) for READ/WRITE commands, to select one location out of the memory array in the respective bank. A10 sampled (See Datasheet)"
part B pins: A1 VDDQ (power) "DQ power supply: 1.5V +/-0.075V. Isolated on the device for improved noise immunity.", A8 VDDQ (power) "DQ power supply: 1.5V +/-0.075V. Isolated on the device for improved noise immunity.", A9 VSS (power) "Ground.", B1 VSSQ (power) "DQ ground: Isolated on the device for improved noise immunity.", B2 VDD (power) "Power supply: 1.5V +/-0.075V.", B3 VSS (power) "Ground.", B9 VSSQ (power) "DQ ground: Isolated on the device for improved noise immunity.", C1 VDDQ (power) "DQ power supply: 1.5V +/-0.075V. Isolated on the device for improved noise immunity.", C9 VDDQ (power) "DQ power supply: 1.5V +/-0.075V. Isolated on the device for improved noise immunity.", D1 VSSQ (power) "DQ ground: Isolated on the device for improved noise immunity.", D2 VDDQ (power) "DQ power supply: 1.5V +/-0.075V. Isolated on the device for improved noise immunity.", D8 VSSQ (power) "DQ ground: Isolated on the device for improved noise immunity.", D9 VDD (power) "Power supply: 1.5V +/-0.075V.", E1 VSS (power) "Ground.", E2 VSSQ (power) "DQ ground: Isolated on the device for improved noise immunity.", E8 VSSQ (power) "DQ ground: Isolated on the device for improved noise immunity.", E9 VDDQ (power) "DQ power supply: 1.5V +/-0.075V. Isolated on the device for improved noise immunity.", F1 VDDQ (power) "DQ power supply: 1.5V +/-0.075V. Isolated on the device for improved noise immunity.", F9 VSSQ (power) "DQ ground: Isolated on the device for improved noise immunity.", G1 VSSQ (power) "DQ ground: Isolated on the device for improved noise immunity.", G7 VDD (power) "Power supply: 1.5V +/-0.075V.", G8 VSS (power) "Ground.", G9 VSSQ (power) "DQ ground: Isolated on the device for improved noise immunity.", H1 VREFDQ (in) "Reference voltage for data: VREFDQ must be maintained at all times (excluding self refresh) for proper device operation.", H2 VDDQ (power) "DQ power supply: 1.5V +/-0.075V. Isolated on the device for improved noise immunity.", H9 VDDQ (power) "DQ power supply: 1.5V +/-0.075V. Isolated on the device for improved noise immunity.", J2 VSS (power) "Ground.", J8 VSS (power) "Ground.", K2 VDD (power) "Power supply: 1.5V +/-0.075V.", K8 VDD (power) "Power supply: 1.5V +/-0.075V.", M1 VSS (power) "Ground.", M8 VREFCA (in) "Reference voltage for control, command, and address: VREFCA must be maintained at all times (including self refresh) for proper device operation.", M9 VSS (power) "Ground.", N1 VDD (power) "Power supply: 1.5V +/-0.075V.", N9 VDD (in) "Power supply: 1.5V +/-0.075V.", P1 VSS (in) "Ground.", P9 VSS (power) "Ground.", R1 VDD (power) "Power supply: 1.5V +/-0.075V.", R9 VDD (power) "Power supply: 1.5V +/-0.075V.", T1 VSS (power) "Ground.", T9 VSS (power) "Ground."
part C pins: J1 NC "No connect: These balls should be left unconnected (the ball has no connection to the DRAM or to other balls).", J9 NC "No connect: These balls should be left unconnected (the ball has no connection to the DRAM or to other balls).", L1 NC "No connect: These balls should be left unconnected (the ball has no connection to the DRAM or to other balls).", L9 NC "No connect: These balls should be left unconnected (the ball has no connection to the DRAM or to other balls).", M7 NC "No connect: These balls should be left unconnected (the ball has no connection to the DRAM or to other balls).", T3 NC "No connect: These balls should be left unconnected (the ball has no connection to the DRAM or to other balls).", T7 NC "No connect: These balls should be left unconnected (the ball has no connection to the DRAM or to other balls)."

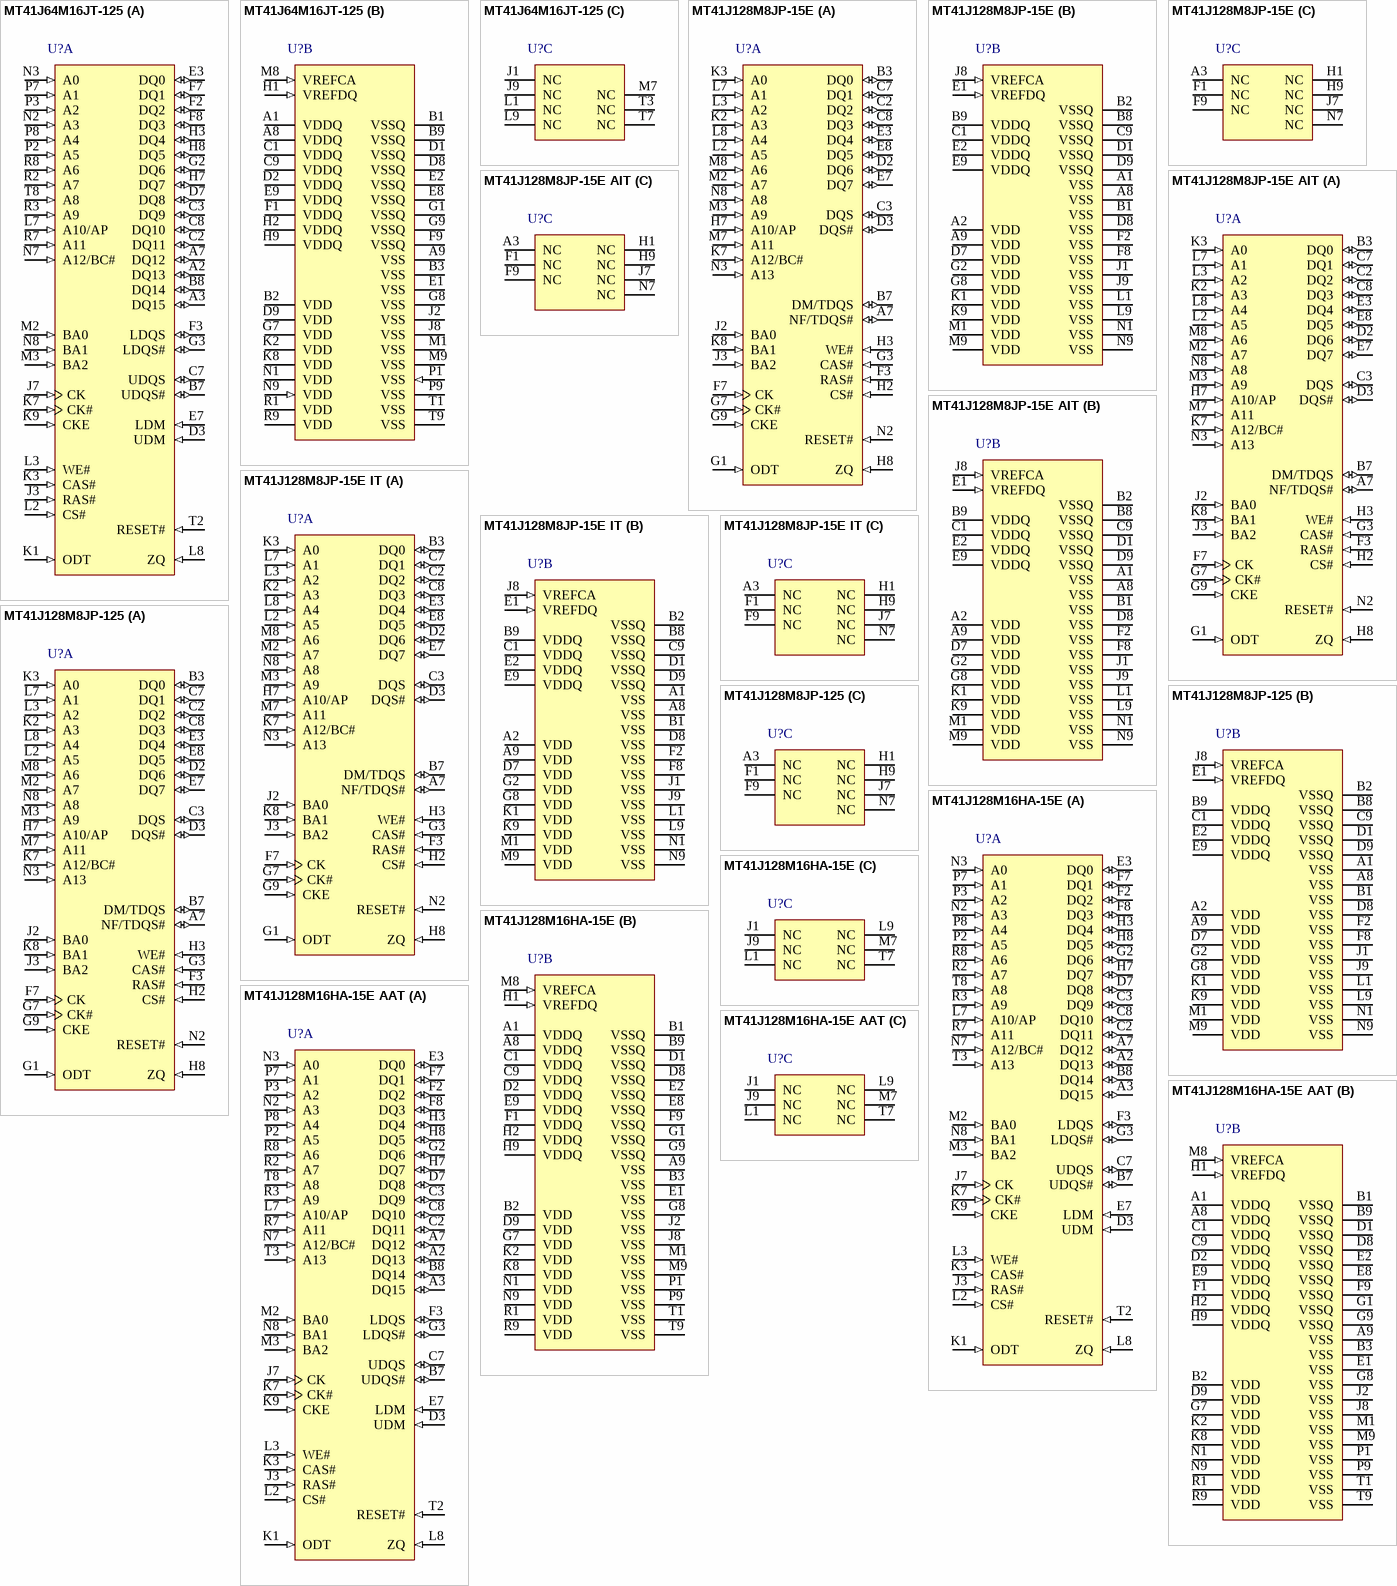
[diagram p2: symbols MT41J64M16JT-125 to MT41J128M16HA-15E AAT]